# Altium schematic symbol library LTC1380CSTR.SchLib: 1 symbol
Pins are listed as number, name and electrical type; pins without a type are passive.

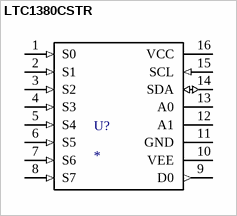
[diagram p0: symbol LTC1380CSTR]

## LTC1380CSTR
designator U?
pins: 1 S0 (in), 2 S1 (in), 3 S2 (in), 4 S3 (in), 5 S4 (in), 6 S5 (in), 7 S6 (in), 8 S7 (in), 9 D0 (out), 10 VEE, 11 GND, 12 A1, 13 A0, 14 SDA (io), 15 SCL (in), 16 VCC